# EAGLE library part SFWR16R (library con-fci)
FPC Connector
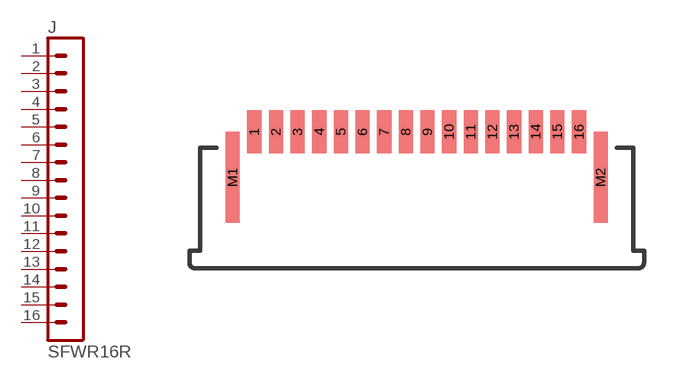
[diagram p5: symbol with the pads of SFW16R; footprint SFW16R]

Designator prefix J

## SFWR16R  [SFW16R]
1  1  pas
2  2  pas
3  3  pas
4  4  pas
5  5  pas
6  6  pas
7  7  pas
8  8  pas
9  9  pas
10  10  pas
11  11  pas
12  12  pas
13  13  pas
14  14  pas
15  15  pas
16  16  pas

## Footprint SFW16R (pad centres in mm)
FFC/FPC - 1mm Right Angle, SMT Bottom Contact
smd 0.65 x 2: 1 -7.5,1; 2 -6.5,1; 3 -5.5,1; 4 -4.5,1; 5 -3.5,1; 6 -2.5,1; 7 -1.5,1; 8 -0.5,1; 9 0.5,1; 10 1.5,1; 11 2.5,1; 12 3.5,1; 13 4.5,1; 14 5.5,1; 15 6.5,1; 16 7.5,1
smd 0.65 x 4.2: M1 -8.5,-1.1; M2 8.5,-1.1